# Altium footprint library Tool.PcbLib: 2 footprints
Each footprint in its own frame and in the unit in brackets; x right, y up, seen from the top. Pads: shape width x height; smd on the part's side, far side on the other; paste and mask are expansions set on the pad; w line width, h text height; cw(c..) or ccw(c..) is an arc to the next point about the centre after c.
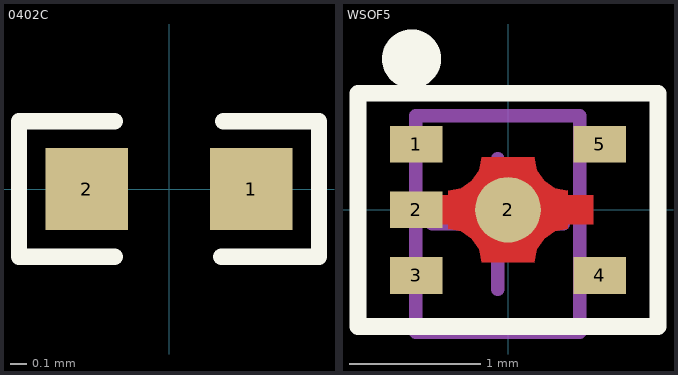
[diagram p0: the footprints below, top view; thin cyan lines are the x and y axes]

## 0402C [mil]
pads (2):
  rect 20x20 smd: 1(20,0) 2(-20,0)
Top Overlay:
  lines w4: -13.25,-16.5 -36.5,-16.5 -36.5,16.5 -13.25,16.5 ; 12.75,-16.5 36,-16.5 ; 13.25,16.5 36.5,16.5 36.5,-16.5
3D body: height 19.68, standoff 0, extent -34,-14 34,14

## WSOF5 [mm] "SOT23, 5-Leads, Body 1.6x1.6mm (max), Pitch 0.50mm, IPC Medium Density"
height 0.6
pads (6):
  rect 0.4x0.28 smd: 1(-0.7,0.5) 2(-0.7,0) 3(-0.7,-0.5) 4(0.7,-0.5) 5(0.7,0.5)
  round 0.5 smd: 2(0,0)
Top Layer:
  region: -0.455,0.145 -0.357,0.165 -0.275,0.22 -0.22,0.302 -0.2,0.4 -0.205,0.4 0.205,0.4 0.2,0.4 0.22,0.302 0.275,0.22 0.357,0.165 0.455,0.145 0.455,0.15 0.455,0.11 0.65,0.11 0.65,-0.11 0.455,-0.11 0.455,-0.145 0.357,-0.165 0.275,-0.22 0.22,-0.302 0.2,-0.4 0.205,-0.4 -0.2,-0.4 -0.22,-0.302 -0.275,-0.22 -0.357,-0.165 -0.455,-0.145 -0.455,-0.15 -0.455,-0.11 -0.85,-0.11 -0.85,0.11 -0.455,0.11
Top Overlay:
  circle w0.25: c-0.735,1.15 r0.1
  lines w0.127: -1.143,-0.889 1.143,-0.889 1.143,0.889 -1.143,0.889 -1.143,-0.889
Top Paste:
  region: -0.455,0.145 -0.357,0.165 -0.275,0.22 -0.22,0.302 -0.2,0.4 -0.205,0.4 0.205,0.4 0.2,0.4 0.22,0.302 0.275,0.22 0.357,0.165 0.455,0.145 0.455,0.15 0.455,0.11 0.65,0.11 0.65,-0.11 0.455,-0.11 0.455,-0.145 0.357,-0.165 0.275,-0.22 0.22,-0.302 0.2,-0.4 0.205,-0.4 -0.2,-0.4 -0.22,-0.302 -0.275,-0.22 -0.357,-0.165 -0.455,-0.145 -0.455,-0.15 -0.455,-0.11 -0.85,-0.11 -0.85,0.11 -0.455,0.11
Top Solder:
  region: -0.455,0.145 -0.357,0.165 -0.275,0.22 -0.22,0.302 -0.2,0.4 -0.205,0.4 0.205,0.4 0.2,0.4 0.22,0.302 0.275,0.22 0.357,0.165 0.455,0.145 0.455,0.15 0.455,0.11 0.65,0.11 0.65,-0.11 0.455,-0.11 0.455,-0.145 0.357,-0.165 0.275,-0.22 0.22,-0.302 0.2,-0.4 0.205,-0.4 -0.2,-0.4 -0.22,-0.302 -0.275,-0.22 -0.357,-0.165 -0.455,-0.145 -0.455,-0.15 -0.455,-0.11 -0.85,-0.11 -0.85,0.11 -0.455,0.11
Mechanical 13:
  lines w0.1: -0.703,-0.933 -0.703,0.717 0.547,0.717 0.547,-0.933 -0.703,-0.933
Mechanical 15:
  lines w0.1: -0.578,-0.108 0.422,-0.108 ; -0.078,-0.608 -0.078,0.392
3D body: height 0.6, standoff 0, extent -1.002,-0.742 1.002,0.742